# Altium schematic symbol library INA229.SchLib: 1 symbol
Pins are listed as number, name and electrical type; pins without a type are passive.

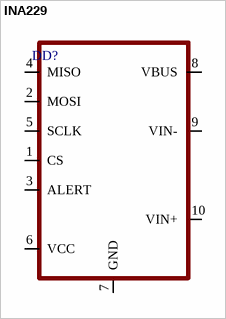
[diagram p0: symbol INA229]

## INA229
designator DD?
pins: 1 CS, 2 MOSI , 3 ALERT, 4 MISO, 5 SCLK, 6 VCC, 7 GND, 8 VBUS, 9 VIN-, 10 VIN+